# Altium footprint library MCP1825S-5002E_DB.PcbLib: 1 footprints
Each footprint in its own frame and in the unit in brackets; x right, y up, seen from the top. Pads: shape width x height; smd on the part's side, far side on the other; paste and mask are expansions set on the pad; w line width, h text height; cw(c..) or ccw(c..) is an arc to the next point about the centre after c.
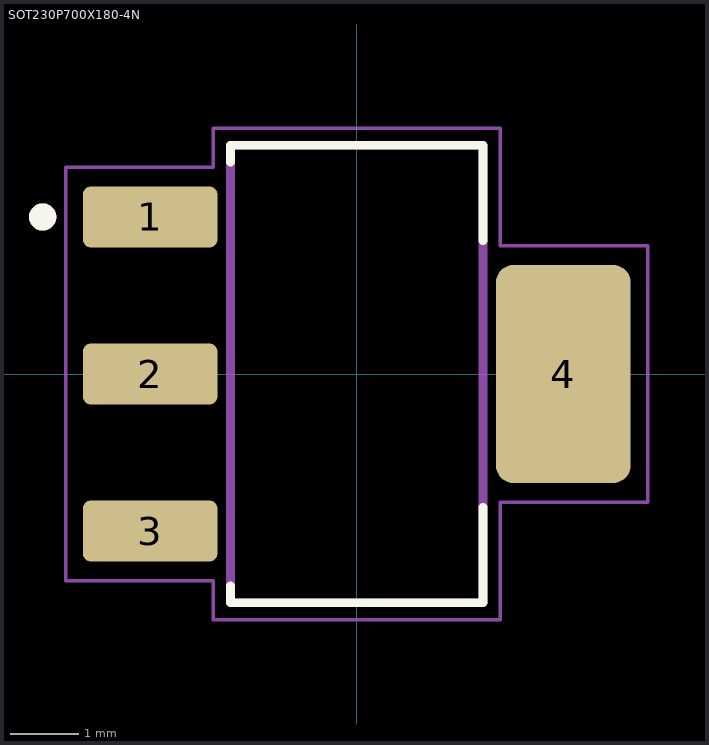
[diagram p0: the footprint, top view; thin cyan lines are the x and y axes]

## SOT230P700X180-4N [mm]
pads (4):
  rrect25% 1.97x0.89 smd: 1(-3.025,2.3) 2(-3.025,0) 3(-3.025,-2.3)
  rrect25% 1.97x3.19 smd: 4(3.025,0)
Top Overlay:
  circle w0.2: c-4.6,2.3 r0.1
  lines w0.127: -1.85,-3.1 -1.85,-3.35 1.85,-3.35 1.85,-1.95 ; -1.85,3.1 -1.85,3.35 1.85,3.35 1.85,1.95
Mechanical 13:
  circle w0.2: c-4.6,2.3 r0.1
  lines w0.127: -1.85,-3.35 -1.85,3.35 1.85,3.35 1.85,-3.35 -1.85,-3.35
Mechanical 15:
  lines w0.05: -4.26,-3.03 -2.1,-3.03 -2.1,-3.6 2.1,-3.6 2.1,-1.88 4.26,-1.88 4.26,1.88 2.1,1.88 2.1,3.6 -2.1,3.6 -2.1,3.03 -4.26,3.03 -4.26,-3.03
3D body "step_temp.STEP": height 1.8, standoff 0, extent -3.499,-3.25 3.499,3.25